# EAGLE library part PIC10F222 (library BaseApp)
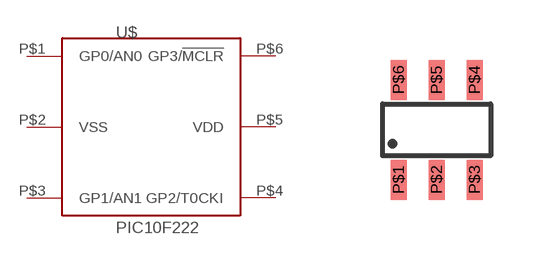
[diagram p21: symbol with the pads of 6PIN_SOT23; footprint 6PIN_SOT23]

Designator prefix U$

## PIC10F222  [6PIN_SOT23]
P$1  GP0/AN0
P$2  VSS  pwr
P$3  GP1/AN1
P$4  GP2/T0CKI
P$5  VDD  pwr
P$6  GP3/!MCLR

## Footprint 6PIN_SOT23 (pad centres in mm)
smd 0.4 x 1: P$1 -0.95,-1.25; P$2 0,-1.25; P$3 0.95,-1.25; P$4 0.95,1.25; P$5 0,1.25; P$6 -0.95,1.25